# Altium schematic symbol library HDMI_Mini-HDMI.SchLib: 5 symbols
Pins are listed as number, name and electrical type; pins without a type are passive.

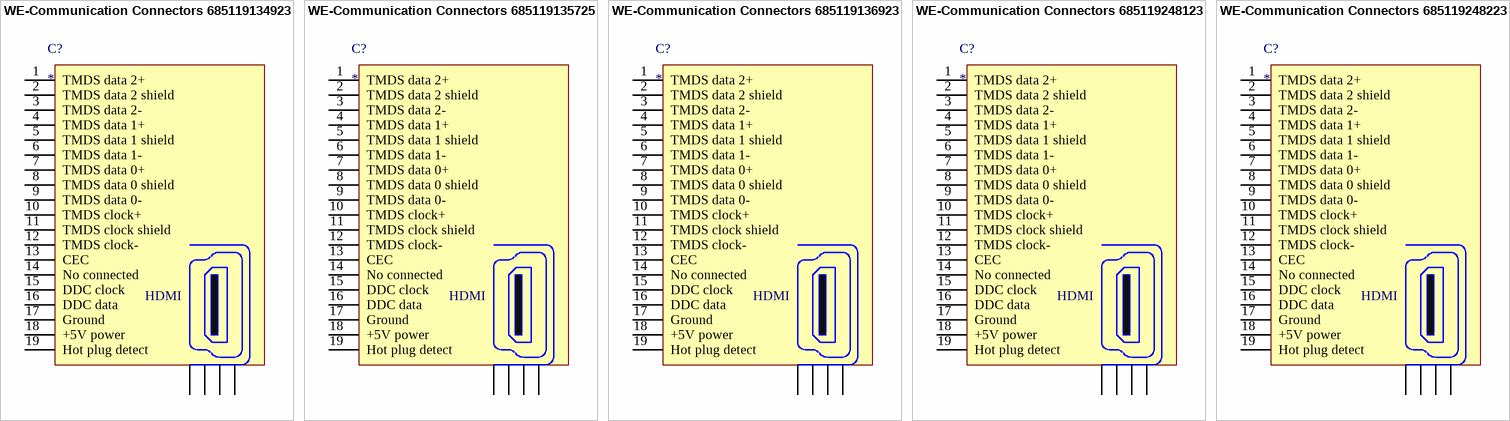
[diagram p0: symbols WE-Communication Connectors 685119134923 to WE-Communication Connectors 685119248223]

## WE-Communication Connectors 685119134923
designator C?
WR-COM Angled SMT HDMI; Manufacturer: Würth Elektronik eiSos GmbH; partNo: 685119134923; ComponentLink1 Description: Manufacturer; ComponentLink2 Description: Datasheet; NoPins: 19; ComponentLink1URL: http://www.we-online.de; ComponentLink2URL: http://katalog.we-online.de/em/datasheet/685119134923.pdf; Created by: Karrer Zheng; Created Date: 10/10/2014
footprint 685119134923 (19 pins)
pins: 1 TMDS data 2+, 2 TMDS data 2 shield, 3 TMDS data 2-, 4 TMDS data 1+, 5 TMDS data 1 shield, 6 TMDS data 1-, 7 TMDS data 0+, 8 TMDS data 0 shield, 9 TMDS data 0-, 10 TMDS clock+, 11 TMDS clock shield, 12 TMDS clock-, 13 CEC, 14 No connected, 15 DDC clock, 16 DDC data, 17 Ground, 18 +5V power, 19 Hot plug detect , Z1 Shield, Z2 Shield, Z3 Shield, Z4 Shield
text: HDMI

## WE-Communication Connectors 685119135725
designator C?
WR-COM Angled SMT HDMI; Manufacturer: Würth Elektronik eiSos GmbH; partNo: 685119135725; ComponentLink1 Description: Manufacturer; ComponentLink2 Description: Datasheet; NoPins: 19; ComponentLink1URL: http://www.we-online.de; ComponentLink2URL: http://katalog.we-online.de/em/datasheet/685119135725.pdf; Created by: Karrer Zheng; Created Date: 10/10/2014
footprint 685119135725 (19p + M3 flange)
pins: 1 TMDS data 2+, 2 TMDS data 2 shield, 3 TMDS data 2-, 4 TMDS data 1+, 5 TMDS data 1 shield, 6 TMDS data 1-, 7 TMDS data 0+, 8 TMDS data 0 shield, 9 TMDS data 0-, 10 TMDS clock+, 11 TMDS clock shield, 12 TMDS clock-, 13 CEC, 14 No connected, 15 DDC clock, 16 DDC data, 17 Ground, 18 +5V power, 19 Hot plug detect , Z1 Shield, Z2 Shield, Z3 Shield, Z4 Shield
text: HDMI

## WE-Communication Connectors 685119136923
designator C?
WR-COM Angled SMT Mini HDMI; Manufacturer: Würth Elektronik eiSos GmbH; partNo: 685119136923; ComponentLink1 Description: Manufacturer; ComponentLink2 Description: Datasheet; NoPins: 19; ComponentLink1URL: http://www.we-online.de; ComponentLink2URL: http://katalog.we-online.de/em/datasheet/685119136923.pdf; Created by: Karrer Zheng; Created Date: 10/10/2014
footprint 685119136923 (19p)
pins: 1 TMDS data 2+, 2 TMDS data 2 shield, 3 TMDS data 2-, 4 TMDS data 1+, 5 TMDS data 1 shield, 6 TMDS data 1-, 7 TMDS data 0+, 8 TMDS data 0 shield, 9 TMDS data 0-, 10 TMDS clock+, 11 TMDS clock shield, 12 TMDS clock-, 13 CEC, 14 No connected, 15 DDC clock, 16 DDC data, 17 Ground, 18 +5V power, 19 Hot plug detect , Z1 Shield, Z2 Shield, Z3 Shield, Z4 Shield
text: HDMI

## WE-Communication Connectors 685119248123
designator C?
WR-COM Angled SMT Micro HDMI; Manufacturer: Würth Elektronik eiSos GmbH; partNo: 685119248123; ComponentLink1 Description: Manufacturer; ComponentLink2 Description: Datasheet; NoPins: 19; ComponentLink1URL: http://www.we-online.de; ComponentLink2URL: http://katalog.we-online.de/em/datasheet/685119248123.pdf; Created by: Karrer Zheng; Created Date: 10/10/2014
footprint 685119248123 (Receptacle THT shell tabs)
pins: 1 TMDS data 2+, 2 TMDS data 2 shield, 3 TMDS data 2-, 4 TMDS data 1+, 5 TMDS data 1 shield, 6 TMDS data 1-, 7 TMDS data 0+, 8 TMDS data 0 shield, 9 TMDS data 0-, 10 TMDS clock+, 11 TMDS clock shield, 12 TMDS clock-, 13 CEC, 14 No connected, 15 DDC clock, 16 DDC data, 17 Ground, 18 +5V power, 19 Hot plug detect , Z1 Shield, Z2 Shield, Z3 Shield, Z4 Shield
text: HDMI

## WE-Communication Connectors 685119248223
designator C?
WR-COM Angled SMT Micro HDMI; Manufacturer: Würth Elektronik eiSos GmbH; partNo: 685119248223; ComponentLink1 Description: Manufacturer; ComponentLink2 Description: Datasheet; NoPins: 19; ComponentLink1URL: http://www.we-online.de; ComponentLink2URL: http://katalog.we-online.de/em/datasheet/685119248223.pdf; Created by: Karrer Zheng; Created Date: 10/10/2014
footprint 685119248223 (Receptacle Hybird Mount consist of Vertical and Horizontal Type shell tabs)
pins: 1 TMDS data 2+, 2 TMDS data 2 shield, 3 TMDS data 2-, 4 TMDS data 1+, 5 TMDS data 1 shield, 6 TMDS data 1-, 7 TMDS data 0+, 8 TMDS data 0 shield, 9 TMDS data 0-, 10 TMDS clock+, 11 TMDS clock shield, 12 TMDS clock-, 13 CEC, 14 No connected, 15 DDC clock, 16 DDC data, 17 Ground, 18 +5V power, 19 Hot plug detect , Z1 Shield, Z2 Shield, Z3 Shield, Z4 Shield
text: HDMI